# EAGLE library part STM32F401 (library microcontrollers)
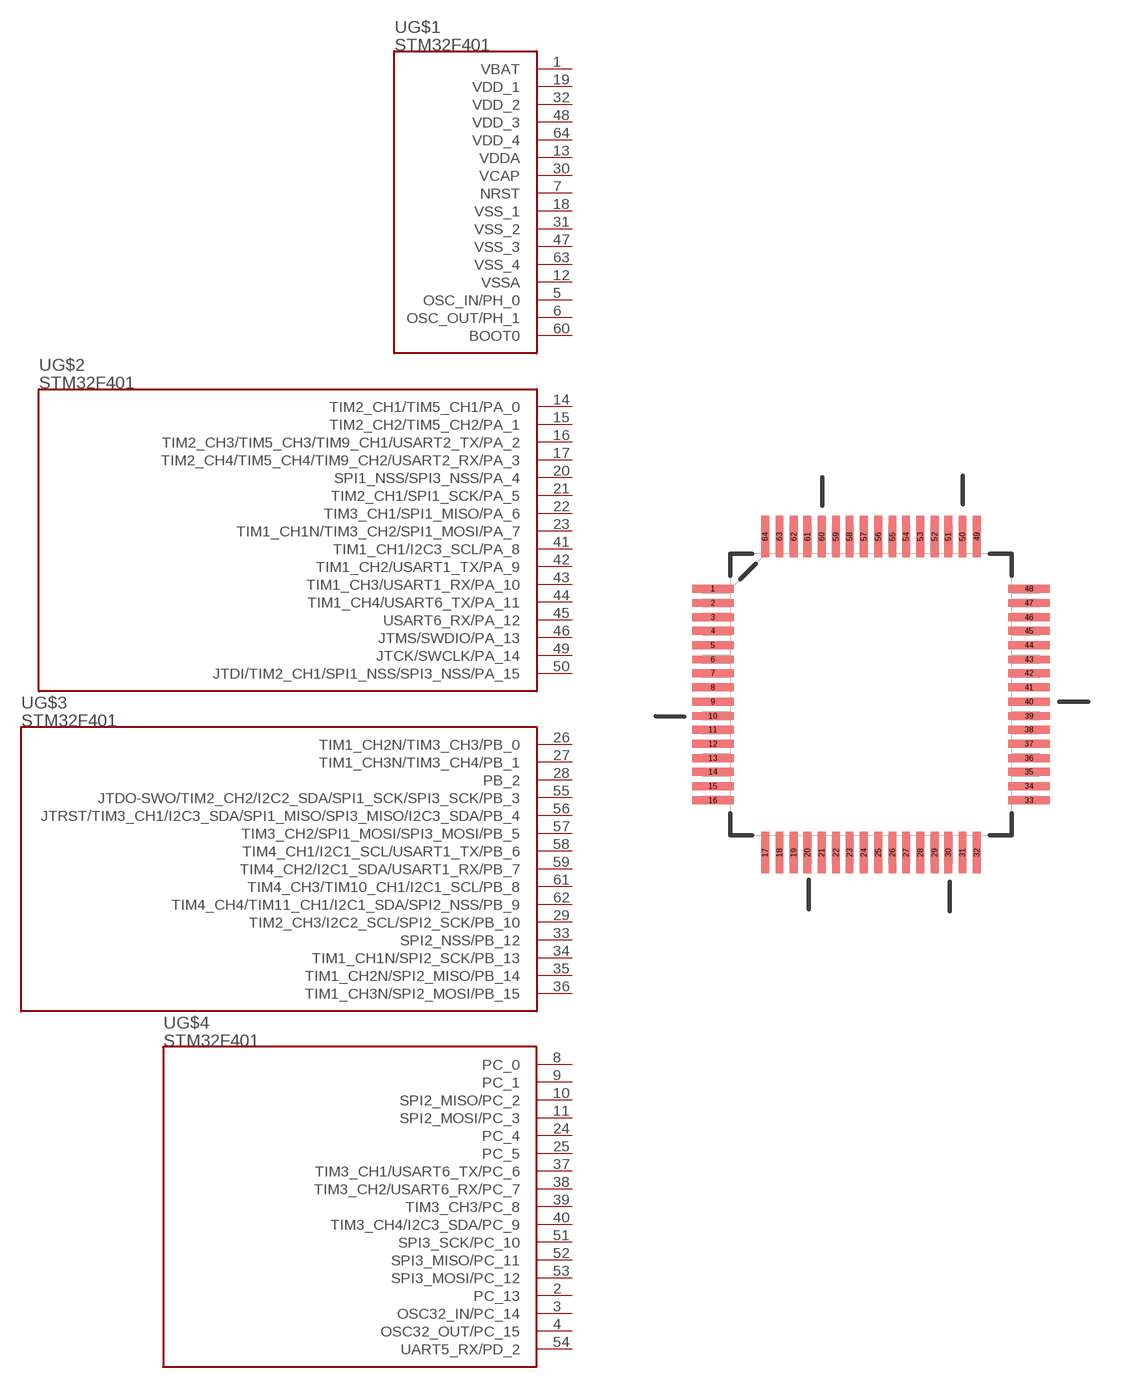
[diagram p23: symbol with the pads of QFP50P1200X1200X160-64N; footprint QFP50P1200X1200X160-64N]

Designator prefix -; gates G$1=STM32F401_POWER G$2=STM32F401_PORTA G$3=STM32F401_PORTB G$4=STM32F401_PORTC

## STM32F401  [QFP50P1200X1200X160-64N]
1  G$1:VBAT  pwr
2  G$4:PC_13
3  G$4:OSC32_IN/PC_14
4  G$4:OSC32_OUT/PC_15
5  G$1:OSC_IN/PH_0
6  G$1:OSC_OUT/PH_1
7  G$1:NRST  in
8  G$4:PC_0
9  G$4:PC_1
10  G$4:SPI2_MISO/PC_2
11  G$4:SPI2_MOSI/PC_3
12  G$1:VSSA  pwr
13  G$1:VDDA  pwr
14  G$2:TIM2_CH1/TIM5_CH1/PA_0
15  G$2:TIM2_CH2/TIM5_CH2/PA_1
16  G$2:TIM2_CH3/TIM5_CH3/TIM9_CH1/USART2_TX/PA_2
17  G$2:TIM2_CH4/TIM5_CH4/TIM9_CH2/USART2_RX/PA_3
18  G$1:VSS_1  pwr
19  G$1:VDD_1  pwr
20  G$2:SPI1_NSS/SPI3_NSS/PA_4
21  G$2:TIM2_CH1/SPI1_SCK/PA_5
22  G$2:TIM3_CH1/SPI1_MISO/PA_6
23  G$2:TIM1_CH1N/TIM3_CH2/SPI1_MOSI/PA_7
24  G$4:PC_4
25  G$4:PC_5
26  G$3:TIM1_CH2N/TIM3_CH3/PB_0
27  G$3:TIM1_CH3N/TIM3_CH4/PB_1
28  G$3:PB_2
29  G$3:TIM2_CH3/I2C2_SCL/SPI2_SCK/PB_10
30  G$1:VCAP  pwr
31  G$1:VSS_2  pwr
32  G$1:VDD_2  pwr
33  G$3:SPI2_NSS/PB_12
34  G$3:TIM1_CH1N/SPI2_SCK/PB_13
35  G$3:TIM1_CH2N/SPI2_MISO/PB_14
36  G$3:TIM1_CH3N/SPI2_MOSI/PB_15
37  G$4:TIM3_CH1/USART6_TX/PC_6
38  G$4:TIM3_CH2/USART6_RX/PC_7
39  G$4:TIM3_CH3/PC_8
40  G$4:TIM3_CH4/I2C3_SDA/PC_9
41  G$2:TIM1_CH1/I2C3_SCL/PA_8
42  G$2:TIM1_CH2/USART1_TX/PA_9
43  G$2:TIM1_CH3/USART1_RX/PA_10
44  G$2:TIM1_CH4/USART6_TX/PA_11
45  G$2:USART6_RX/PA_12
46  G$2:JTMS/SWDIO/PA_13
47  G$1:VSS_3  pwr
48  G$1:VDD_3  pwr
49  G$2:JTCK/SWCLK/PA_14
50  G$2:JTDI/TIM2_CH1/SPI1_NSS/SPI3_NSS/PA_15
51  G$4:SPI3_SCK/PC_10
52  G$4:SPI3_MISO/PC_11
53  G$4:SPI3_MOSI/PC_12
54  G$4:UART5_RX/PD_2
55  G$3:JTDO-SWO/TIM2_CH2/I2C2_SDA/SPI1_SCK/SPI3_SCK/PB_3
56  G$3:JTRST/TIM3_CH1/I2C3_SDA/SPI1_MISO/SPI3_MISO/I2C3_SDA/PB_4
57  G$3:TIM3_CH2/SPI1_MOSI/SPI3_MOSI/PB_5
58  G$3:TIM4_CH1/I2C1_SCL/USART1_TX/PB_6
59  G$3:TIM4_CH2/I2C1_SDA/USART1_RX/PB_7
60  G$1:BOOT0  in
61  G$3:TIM4_CH3/TIM10_CH1/I2C1_SCL/PB_8
62  G$3:TIM4_CH4/TIM11_CH1/I2C1_SDA/SPI2_NSS/PB_9
63  G$1:VSS_4  pwr
64  G$1:VDD_4  pwr

## Footprint QFP50P1200X1200X160-64N (pad centres in mm)
smd 1.473 x 0.279: 1 -5.613,3.759; 2 -5.613,3.251; 3 -5.613,2.743; 4 -5.613,2.261; 5 -5.613,1.753; 6 -5.613,1.245; 7 -5.613,0.762; 8 -5.613,0.254; 9 -5.613,-0.254; 10 -5.613,-0.762; 11 -5.613,-1.245; 12 -5.613,-1.753; 13 -5.613,-2.261; 14 -5.613,-2.743; 15 -5.613,-3.251; 16 -5.613,-3.759; 33 5.613,-3.759; 34 5.613,-3.251; 35 5.613,-2.743; 36 5.613,-2.261; 37 5.613,-1.753; 38 5.613,-1.245; 39 5.613,-0.762; 40 5.613,-0.254; 41 5.613,0.254; 42 5.613,0.762; 43 5.613,1.245; 44 5.613,1.753; 45 5.613,2.261; 46 5.613,2.743; 47 5.613,3.251; 48 5.613,3.759
smd 0.279 x 1.473: 17 -3.759,-5.613; 18 -3.251,-5.613; 19 -2.743,-5.613; 20 -2.261,-5.613; 21 -1.753,-5.613; 22 -1.245,-5.613; 23 -0.762,-5.613; 24 -0.254,-5.613; 25 0.254,-5.613; 26 0.762,-5.613; 27 1.245,-5.613; 28 1.753,-5.613; 29 2.261,-5.613; 30 2.743,-5.613; 31 3.251,-5.613; 32 3.759,-5.613; 49 3.759,5.613; 50 3.251,5.613; 51 2.743,5.613; 52 2.261,5.613; 53 1.753,5.613; 54 1.245,5.613; 55 0.762,5.613; 56 0.254,5.613; 57 -0.254,5.613; 58 -0.762,5.613; 59 -1.245,5.613; 60 -1.753,5.613; 61 -2.261,5.613; 62 -2.743,5.613; 63 -3.251,5.613; 64 -3.759,5.613